# EAGLE library part MAX44284FAUT+T (library MAX44284FAUT+T)
Current Sense Amplifiers -0.1~+36V, High Precision, Low Power Current-Sense Amplifier Source: Datasheet <https://datasheets.maximintegrated.com/en/ds/MAX44284.pdf>
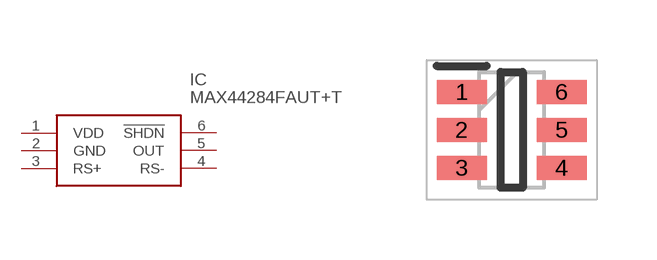
[diagram p0: symbol with the pads of SOT95P280X145-6N; footprint SOT95P280X145-6N]

Designator prefix IC

## MAX44284FAUT+T (Description: Current Sense Amplifiers -0.1~+36V, High Precision, Low Power Current-Sense Amplifier; Height: 1.45mm; Manufacturer_Name: Maxim Integrated; Manufacturer_Part_Number: MAX44284FAUT+T; Mouser_Part_Number: 700-MAX44284FAUT+T; Mouser_Price-Stock: https://www.mouser.co.uk/ProductDetail/Maxim-Integrated/MAX44284FAUT%2bT/?qs=ZrtEiRxEuI5%2F3wig4C1EWg%3D%3D)  [SOT95P280X145-6N]
1  VDD
2  GND
3  RS+
4  RS-
5  OUT
6  !SHDN

## Footprint SOT95P280X145-6N (pad centres in mm)
6 SOT23-6
smd 1.25 x 0.6: 1 -1.25,0.95; 2 -1.25,0; 3 -1.25,-0.95; 4 1.25,-0.95; 5 1.25,0; 6 1.25,0.95